# Altium schematic symbol library GRM033R60J104KE19D.SchLib: 1 symbol
Pins are listed as number, name and electrical type; pins without a type are passive.

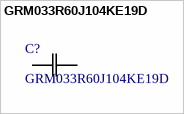
[diagram p0: symbol GRM033R60J104KE19D]

## GRM033R60J104KE19D
designator C?
Description; Manufacturer_Name: Murata; Copyright: Copyright (C) 2025 Ultra Librarian. All rights reserved.; Manufacturer_Part_Number: GRM033R60J104KE19D
footprint G-033_MUR
pins: 1, 2